# Altium footprint library PCB - LEADED - ADI-R-8_M.PCBLIB: 1 footprints
Each footprint in its own frame and in the unit in brackets; x right, y up, seen from the top. Pads: shape width x height; smd on the part's side, far side on the other; paste and mask are expansions set on the pad; w line width, h text height; cw(c..) or ccw(c..) is an arc to the next point about the centre after c.
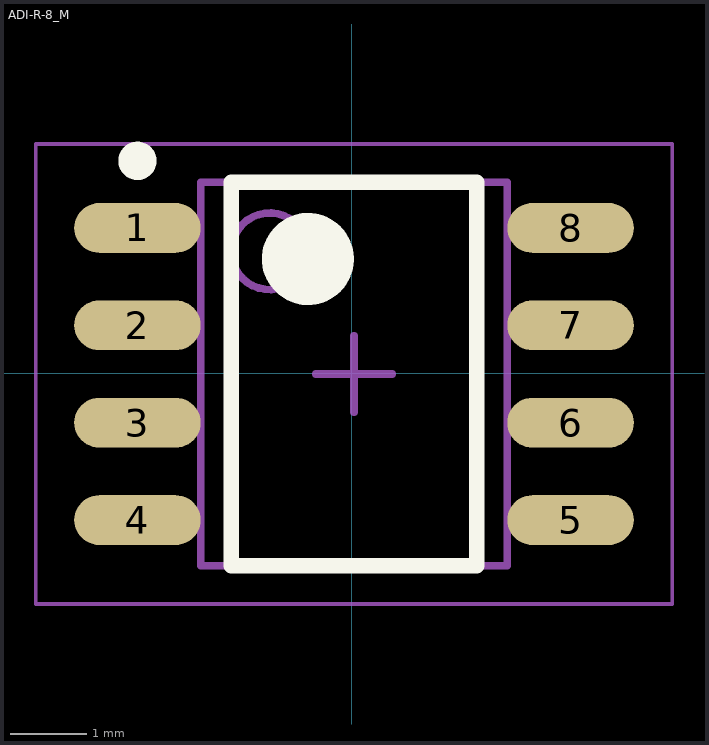
[diagram p0: the footprint, top view; thin cyan lines are the x and y axes]

## ADI-R-8_M [mm]
height 0.6
pads (8):
  oval 1.65x0.65 smd: 1(-2.793,1.898) 2(-2.793,0.628) 3(-2.793,-0.642) 4(-2.793,-1.912) 5(2.857,-1.912) 6(2.857,-0.642) 7(2.857,0.628) 8(2.857,1.898)
Top Overlay:
  circle w0.25: c-2.793,2.773 r0.125
  circle w0.6: c-0.568,1.493 r0.3
  lines w0.2: -1.568,-2.507 -1.568,2.493 1.632,2.493 1.632,-2.507 -1.568,-2.507
Top Assembly:
  circle w0.1: c-1.068,1.593 r0.5
  lines w0.1: -1.968,-2.507 -1.968,2.493 2.032,2.493 2.032,-2.507 -1.968,-2.507
Top Courtyard:
  lines w0.05: -4.118,-3.007 -4.118,2.993 4.182,2.993 4.182,-3.007 -4.118,-3.007
Top Designator:
  text ".Designator" at -4.9,-4 h1
Top Component Center:
  lines w0.1: -0.468,-0.007 0.532,-0.007 ; 0.032,-0.507 0.032,0.493
3D body "SOIC127P600X175-8M.step": height 1.75, standoff 0, extent -2.968,-2.507 3.032,2.493